# EAGLE library part 5566-24 (library ISA-Card-Edge-Conncetor-18x2P)
Mini FIT connector 24 pol Source: http://www.molex.com
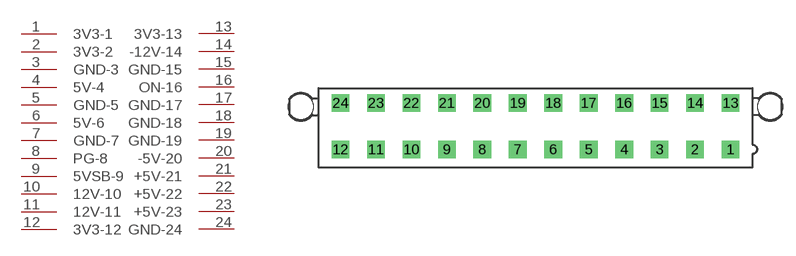
[diagram p3: symbol with the pads of 5566-24; footprint 5566-24]

Designator prefix X

## 5566-24 (OC_FARNELL: unknown; OC_NEWARK: unknown)  [5566-24]
1  3V3-1
2  3V3-2
3  GND-3
4  5V-4
5  GND-5
6  5V-6
7  GND-7
8  PG-8
9  5VSB-9
10  12V-10
11  12V-11
12  3V3-12
13  3V3-13
14  -12V-14
15  GND-15
16  ON-16
17  GND-17
18  GND-18
19  GND-19
20  -5V-20
21  +5V-21
22  +5V-22
23  +5V-23
24  GND-24

## Footprint 5566-24 (pad centres in mm)
Mini FIT connector 24 pol Source: http://www.molex.com
drill 1.4 square: 1 23.1,-2.75; 2 18.9,-2.75; 3 14.7,-2.75; 4 10.5,-2.75; 5 6.3,-2.75; 6 2.1,-2.75; 7 -2.1,-2.75; 8 -6.3,-2.75; 9 -10.5,-2.75; 10 -14.7,-2.75; 11 -18.9,-2.75; 12 -23.1,-2.75; 13 23.1,2.75; 14 18.9,2.75; 15 14.7,2.75; 16 10.5,2.75; 17 6.3,2.75; 18 2.1,2.75; 19 -2.1,2.75; 20 -6.3,2.75; 21 -10.5,2.75; 22 -14.7,2.75; 23 -18.9,2.75; 24 -23.1,2.75
hole 3 at 27.8,2.29
hole 3 at -27.8,2.29